# EAGLE library part TEL_5_SERIES (library TRACO_THL_TEL_Series)
TRACO POWER DC/DC converter TEL 5 Series created by Mario Blunk - electronics & IT engineering at www.train-z.de
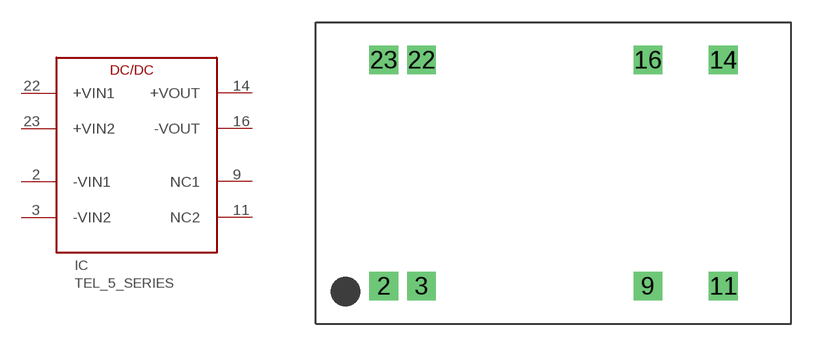
[diagram p1: symbol with the pads of TEL_5_SERIES; footprint TEL_5_SERIES]

Designator prefix IC

## TEL_5_SERIES  [TEL_5_SERIES]
2  -VIN1  in
3  -VIN2  in
9  NC1  nc
11  NC2  nc
14  +VOUT  pas
16  -VOUT  pas
22  +VIN1  in
23  +VIN2  in

## Footprint TEL_5_SERIES (pad centres in mm)
drill 0.7 pad 1.93 square: 2 -11.43,-7.62; 3 -8.89,-7.62; 9 6.35,-7.62; 11 11.43,-7.62; 14 11.43,7.62; 16 6.35,7.62; 22 -8.89,7.62; 23 -11.43,7.62